# Altium footprint library EE490.PcbLib: 59 footprints (part 3 of 4)
Each footprint in its own frame and in the unit in brackets; x right, y up, seen from the top. Pads: shape width x height; smd on the part's side, far side on the other; paste and mask are expansions set on the pad; w line width, h text height; cw(c..) or ccw(c..) is an arc to the next point about the centre after c.
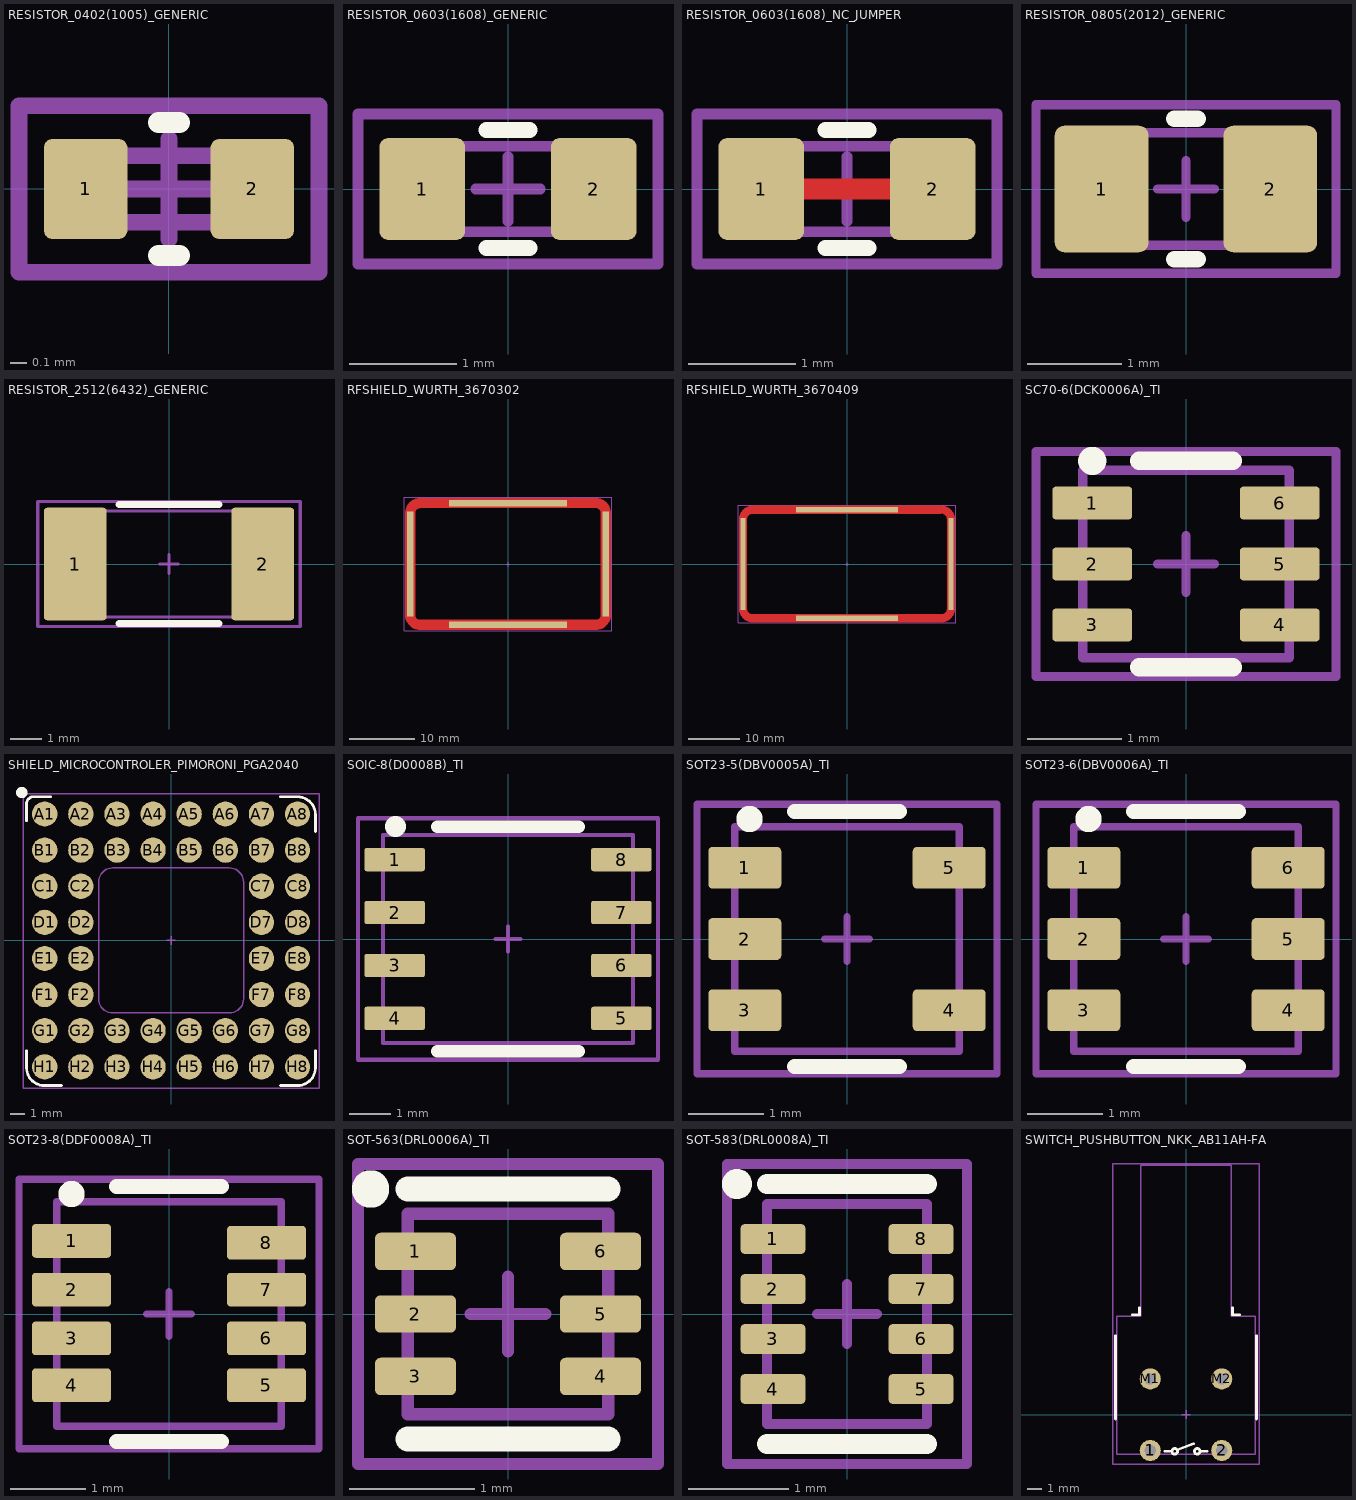
[diagram p2: the footprints below, top view; thin cyan lines are the x and y axes]

## RESISTOR_0402(1005)_GENERIC [mm]
pads (2):
  rrect20% 0.5x0.6 smd: 1(-0.5,0) 2(0.5,0)
Top Overlay:
  lines w0.125: -0.064,-0.4 0.064,-0.4 ; -0.064,0.4 0.064,0.4
Top Component Center:
  lines w0.1: -0.3,0 0.3,0 ; 0,-0.3 0,0.3
Top Component Outline:
  lines w0.1: -0.5,-0.2 0.5,-0.2 0.5,0.2 -0.5,0.2 -0.5,-0.2
Top Designator:
  text ".Designator" at -2.499,-0.167 h0.5
Top Courtyard:
  lines w0.1: -0.9,-0.5 0.9,-0.5 0.9,0.5 -0.9,0.5 -0.9,-0.5
3D body "RESC1005X04L.step": height 0.4, standoff 0, extent -0.5,-0.25 0.5,0.25

## RESISTOR_0603(1608)_GENERIC [mm]
height 0.6
pads (2):
  rrect20% 0.8x0.95 smd: 1(-0.8,0) 2(0.8,0)
Top Overlay:
  lines w0.15: -0.2,-0.55 0.2,-0.55 ; -0.2,0.55 0.2,0.55
Top Component Center:
  lines w0.1: -0.3,0 0.3,0 ; 0,-0.3 0,0.3
Top Component Outline:
  lines w0.1: -0.8,-0.4 0.8,-0.4 0.8,0.4 -0.8,0.4 -0.8,-0.4
Top Designator:
  text ".Designator" at -3.999,-0.267 h0.8
Top Courtyard:
  lines w0.1: -1.4,-0.7 1.4,-0.7 1.4,0.7 -1.4,0.7 -1.4,-0.7
3D body "RESC1608X06L.step": height 0.55, standoff 0, extent -0.8,-0.4 0.8,0.4

## RESISTOR_0603(1608)_NC_JUMPER [mm]
height 0.6
pads (2):
  rrect20% 0.8x0.95 smd: 1(-0.8,0) 2(0.8,0)
Top Layer:
  lines w0.2: -0.8,0 0.8,0
Top Overlay:
  lines w0.15: -0.2,-0.55 0.2,-0.55 ; -0.2,0.55 0.2,0.55
Top Component Center:
  lines w0.1: -0.3,0 0.3,0 ; 0,-0.3 0,0.3
Top Component Outline:
  lines w0.1: -0.8,-0.4 0.8,-0.4 0.8,0.4 -0.8,0.4 -0.8,-0.4
Top Designator:
  text ".Designator" at -3.999,-0.267 h0.8
Top Courtyard:
  lines w0.1: -1.4,-0.7 1.4,-0.7 1.4,0.7 -1.4,0.7 -1.4,-0.7
3D body "RESC1608X06L.step": height 0.55, standoff 0, extent -0.8,-0.4 0.8,0.4

## RESISTOR_0805(2012)_GENERIC [mm]
height 0.6
pads (2):
  rrect20% 1x1.35 smd: 1(-0.9,0) 2(0.9,0)
Top Overlay:
  lines w0.175: -0.125,-0.75 0.125,-0.75 ; -0.125,0.75 0.125,0.75
Top Component Center:
  lines w0.1: -0.3,0 0.3,0 ; 0,-0.3 0,0.3
Top Component Outline:
  lines w0.1: -1,-0.6 1,-0.6 1,0.6 -1,0.6 -1,-0.6
Top Designator:
  text ".Designator" at -4.998,-0.333 h1
Top Courtyard:
  lines w0.1: -1.6,-0.9 1.6,-0.9 1.6,0.9 -1.6,0.9 -1.6,-0.9
3D body "RESC2012X06L.step": height 0.65, standoff 0, extent -1,-0.625 1,0.625

## RESISTOR_2512(6432)_GENERIC [mm]
height 0.6
pads (2):
  rrect10% 2x3.6 smd: 1(-3,0) 2(3,0)
Top Overlay:
  lines w0.225: -1.6,-1.9 1.6,-1.9 ; -1.6,1.9 1.6,1.9
Top Component Center:
  lines w0.1: -0.3,0 0.3,0 ; 0,-0.3 0,0.3
Top Component Outline:
  lines w0.1: -3.3,-1.7 3.3,-1.7 3.3,1.7 -3.3,1.7 -3.3,-1.7
Top Designator:
  text ".Designator" at -7.498,-0.5 h1.5
Top Courtyard:
  lines w0.1: -4.2,-2 4.2,-2 4.2,2 -4.2,2 -4.2,-2
3D body "RESC6432X09N.step": height 0.9, standoff 0, extent -3.3,-1.7 3.3,1.7

## RFSHIELD_WURTH_3670302 [mm]
pads (4):
  rect 1x16 smd paste-2539.97 mask-2222: 1(-14.95,0) 1(14.95,0)
  rect 18x1 smd paste-2539.97 mask-2222: 1(0,-9.3) 1(0,9.3)
Top Layer:
  region: -15.7,-1 -15.7,7.85 -15.7,7.912 -15.693,8.035 -15.679,8.158 -15.659,8.279 -15.631,8.4 -15.597,8.518 -15.556,8.635 -15.509,8.749 -15.455,8.86 -15.396,8.968 -15.33,9.073 -15.259,9.173 -15.182,9.27 -15.099,9.362 -15.012,9.449 -14.92,9.532 -14.823,9.609 -14.723,9.68 -14.618,9.746 -14.51,9.805 -14.399,9.859 -14.285,9.906 -14.168,9.947 -14.05,9.981 -13.929,10.009 -13.808,10.029 -13.685,10.043 -13.562,10.05 -13.5,10.05 13.5,10.05 13.562,10.05 13.685,10.043 13.808,10.029 13.929,10.009 14.05,9.981 14.168,9.947 14.285,9.906 14.399,9.859 14.51,9.805 14.618,9.746 14.723,9.68 14.823,9.609 14.92,9.532 15.012,9.449 15.099,9.362 15.182,9.27 15.259,9.173 15.33,9.073 15.396,8.968 15.455,8.86 15.509,8.749 15.556,8.635 15.597,8.518 15.631,8.4 15.659,8.279 15.679,8.158 15.693,8.035 15.7,7.912 15.7,7.85 15.7,-1 14.2,-1 14.2,7.85 14.199,7.884 14.192,7.953 14.179,8.02 14.159,8.086 14.133,8.149 14.1,8.21 14.062,8.267 14.019,8.32 13.97,8.369 13.917,8.412 13.86,8.45 13.799,8.483 13.736,8.509 13.67,8.529 13.603,8.542 13.534,8.549 13.5,8.55 -13.5,8.55 -13.534,8.549 -13.603,8.542 -13.67,8.529 -13.736,8.509 -13.799,8.483 -13.86,8.45 -13.917,8.412 -13.97,8.369 -14.019,8.32 -14.062,8.267 -14.1,8.21 -14.133,8.149 -14.159,8.086 -14.179,8.02 -14.192,7.953 -14.199,7.884 -14.2,7.85 -14.2,-1
  region: -15.7,-0.25 -15.7,-7.85 -15.7,-8.067 -15.615,-8.492 -15.45,-8.892 -15.209,-9.252 -14.902,-9.559 -14.542,-9.8 -14.142,-9.965 -13.717,-10.05 -13.5,-10.05 13.5,-10.05 13.717,-10.05 14.142,-9.965 14.542,-9.8 14.902,-9.559 15.209,-9.252 15.45,-8.892 15.615,-8.492 15.7,-8.067 15.7,-7.85 15.7,-0.25 14.2,-0.25 14.2,-7.85 14.197,-7.919 14.17,-8.053 14.117,-8.18 14.041,-8.294 13.944,-8.391 13.83,-8.467 13.703,-8.52 13.569,-8.547 13.5,-8.55 -13.5,-8.55 -13.569,-8.547 -13.703,-8.52 -13.83,-8.467 -13.944,-8.391 -14.041,-8.294 -14.117,-8.18 -14.17,-8.053 -14.197,-7.919 -14.2,-7.85 -14.2,-0.25
Top Paste:
  region: -15.7,-0.25 -15.7,-7.85 -15.7,-8.067 -15.615,-8.492 -15.45,-8.892 -15.209,-9.252 -14.902,-9.559 -14.542,-9.8 -14.142,-9.965 -13.717,-10.05 -13.5,-10.05 13.5,-10.05 13.717,-10.05 14.142,-9.965 14.542,-9.8 14.902,-9.559 15.209,-9.252 15.45,-8.892 15.615,-8.492 15.7,-8.067 15.7,-7.85 15.7,-0.25 14.2,-0.25 14.2,-7.85 14.197,-7.919 14.17,-8.053 14.117,-8.18 14.041,-8.294 13.944,-8.391 13.83,-8.467 13.703,-8.52 13.569,-8.547 13.5,-8.55 -13.5,-8.55 -13.569,-8.547 -13.703,-8.52 -13.83,-8.467 -13.944,-8.391 -14.041,-8.294 -14.117,-8.18 -14.17,-8.053 -14.197,-7.919 -14.2,-7.85 -14.2,-0.25
  region: -15.7,0.25 -15.7,7.85 -15.7,8.067 -15.615,8.492 -15.45,8.892 -15.209,9.252 -14.902,9.559 -14.542,9.8 -14.142,9.965 -13.717,10.05 -13.5,10.05 13.5,10.05 13.717,10.05 14.142,9.965 14.542,9.8 14.902,9.559 15.209,9.252 15.45,8.892 15.615,8.492 15.7,8.067 15.7,7.85 15.7,0.25 14.2,0.25 14.2,7.85 14.197,7.919 14.17,8.053 14.117,8.18 14.041,8.294 13.944,8.391 13.83,8.467 13.703,8.52 13.569,8.547 13.5,8.55 -13.5,8.55 -13.569,8.547 -13.703,8.52 -13.83,8.467 -13.944,8.391 -14.041,8.294 -14.117,8.18 -14.17,8.053 -14.197,7.919 -14.2,7.85 -14.2,0.25
Top 3D Body:
  lines w0.1: -15.1,-7.95 ccw(c-13.6,-7.95) -13.6,-9.45 13.6,-9.45 ccw(c13.6,-7.95) 15.1,-7.95 15.1,7.95 ccw(c13.6,7.95) 13.6,9.45 -13.6,9.45 ccw(c-13.6,7.95) -15.1,7.95 -15.1,-7.95
Top Component Center:
  lines w0.1: -0.295,-0.008 0.305,-0.008 ; 0.005,-0.308 0.005,0.292
Top Component Outline:
  lines w0.1: -15.1,-7.95 ccw(c-13.6,-7.95) -13.6,-9.45 13.6,-9.45 ccw(c13.6,-7.95) 15.1,-7.95 15.1,7.95 ccw(c13.6,7.95) 13.6,9.45 -13.6,9.45 ccw(c-13.6,7.95) -15.1,7.95 -15.1,-7.95
Top Designator:
  text ".Designator" at -10.317,-0.431 h2
Top Courtyard:
  lines w0.1: -15.9,-10.2 15.9,-10.2 15.9,10.2 -15.9,10.2 -15.9,-10.2
3D body "STP_3670302 Color.stp": height 3, standoff 0, extent -15.1,-9.45 15.1,9.45

## RFSHIELD_WURTH_3670409 [mm]
pads (4):
  rect 1x18 smd paste-2539.97 mask-2222: 1(-20.3,0) 1(20.3,0)
  rect 20x1 smd paste-2539.97 mask-2222: 1(0,-10.6) 1(0,10.6)
Top Layer:
  region: -21.05,-1 -21.05,8.75 -21.05,8.814 -21.044,8.941 -21.031,9.068 -21.012,9.195 -20.988,9.32 -20.957,9.444 -20.92,9.566 -20.877,9.686 -20.828,9.804 -20.773,9.919 -20.713,10.032 -20.647,10.141 -20.576,10.248 -20.5,10.35 -20.419,10.449 -20.334,10.543 -20.243,10.634 -20.149,10.719 -20.05,10.8 -19.948,10.876 -19.841,10.947 -19.732,11.013 -19.619,11.073 -19.504,11.128 -19.386,11.177 -19.266,11.22 -19.144,11.257 -19.02,11.288 -18.895,11.312 -18.768,11.331 -18.641,11.344 -18.514,11.35 -18.45,11.35 18.45,11.35 18.514,11.35 18.641,11.344 18.768,11.331 18.895,11.312 19.02,11.288 19.144,11.257 19.266,11.22 19.386,11.177 19.504,11.128 19.619,11.073 19.732,11.013 19.841,10.947 19.948,10.876 20.05,10.8 20.149,10.719 20.243,10.634 20.334,10.543 20.419,10.449 20.5,10.35 20.576,10.248 20.647,10.141 20.713,10.032 20.773,9.919 20.828,9.804 20.877,9.686 20.92,9.566 20.957,9.444 20.988,9.32 21.012,9.195 21.031,9.068 21.044,8.941 21.05,8.814 21.05,8.75 21.05,-1 19.55,-1 19.55,8.75 19.549,8.793 19.542,8.879 19.529,8.965 19.509,9.049 19.482,9.131 19.449,9.211 19.41,9.287 19.365,9.361 19.314,9.431 19.258,9.497 19.197,9.558 19.131,9.614 19.061,9.665 18.987,9.71 18.911,9.749 18.831,9.782 18.749,9.809 18.665,9.829 18.579,9.842 18.493,9.849 18.45,9.85 -18.45,9.85 -18.493,9.849 -18.579,9.842 -18.665,9.829 -18.749,9.809 -18.831,9.782 -18.911,9.749 -18.987,9.71 -19.061,9.665 -19.131,9.614 -19.197,9.558 -19.258,9.497 -19.314,9.431 -19.365,9.361 -19.41,9.287 -19.449,9.211 -19.482,9.131 -19.509,9.049 -19.529,8.965 -19.542,8.879 -19.549,8.793 -19.55,8.75 -19.55,-1
  region: -21.05,-0.25 -21.05,-8.75 -21.05,-8.814 -21.044,-8.941 -21.031,-9.068 -21.012,-9.195 -20.988,-9.32 -20.957,-9.444 -20.92,-9.566 -20.877,-9.686 -20.828,-9.804 -20.773,-9.919 -20.713,-10.032 -20.647,-10.141 -20.576,-10.248 -20.5,-10.35 -20.419,-10.449 -20.334,-10.543 -20.243,-10.634 -20.149,-10.719 -20.05,-10.8 -19.948,-10.876 -19.841,-10.947 -19.732,-11.013 -19.619,-11.073 -19.504,-11.128 -19.386,-11.177 -19.266,-11.22 -19.144,-11.257 -19.02,-11.288 -18.895,-11.312 -18.768,-11.331 -18.641,-11.344 -18.514,-11.35 -18.45,-11.35 18.45,-11.35 18.514,-11.35 18.641,-11.344 18.768,-11.331 18.895,-11.312 19.02,-11.288 19.144,-11.257 19.266,-11.22 19.386,-11.177 19.504,-11.128 19.619,-11.073 19.732,-11.013 19.841,-10.947 19.948,-10.876 20.05,-10.8 20.149,-10.719 20.243,-10.634 20.334,-10.543 20.419,-10.449 20.5,-10.35 20.576,-10.248 20.647,-10.141 20.713,-10.032 20.773,-9.919 20.828,-9.804 20.877,-9.686 20.92,-9.566 20.957,-9.444 20.988,-9.32 21.012,-9.195 21.031,-9.068 21.044,-8.941 21.05,-8.814 21.05,-8.75 21.05,-0.25 19.55,-0.25 19.55,-8.75 19.549,-8.793 19.542,-8.879 19.529,-8.965 19.509,-9.049 19.482,-9.131 19.449,-9.211 19.41,-9.287 19.365,-9.361 19.314,-9.431 19.258,-9.497 19.197,-9.558 19.131,-9.614 19.061,-9.665 18.987,-9.71 18.911,-9.749 18.831,-9.782 18.749,-9.809 18.665,-9.829 18.579,-9.842 18.493,-9.849 18.45,-9.85 -18.45,-9.85 -18.493,-9.849 -18.579,-9.842 -18.665,-9.829 -18.749,-9.809 -18.831,-9.782 -18.911,-9.749 -18.987,-9.71 -19.061,-9.665 -19.131,-9.614 -19.197,-9.558 -19.258,-9.497 -19.314,-9.431 -19.365,-9.361 -19.41,-9.287 -19.449,-9.211 -19.482,-9.131 -19.509,-9.049 -19.529,-8.965 -19.542,-8.879 -19.549,-8.793 -19.55,-8.75 -19.55,-0.25
Top Paste:
  drawing of 2 lines, arcs and shapes, not listed
Top 3D Body:
  lines w0.1: -20.45,-8.75 ccw(c-18.45,-8.75) -18.45,-10.75 18.45,-10.75 ccw(c18.45,-8.75) 20.45,-8.75 20.45,8.75 ccw(c18.45,8.75) 18.45,10.75 -18.45,10.75 ccw(c-18.45,8.75) -20.45,8.75 -20.45,-8.75
Top Component Center:
  lines w0.1: -0.295,-0.008 0.305,-0.008 ; 0.005,-0.308 0.005,0.292
Top Component Outline:
  lines w0.1: -20.45,-8.75 ccw(c-18.45,-8.75) -18.45,-10.75 18.45,-10.75 ccw(c18.45,-8.75) 20.45,-8.75 20.45,8.75 ccw(c18.45,8.75) 18.45,10.75 -18.45,10.75 ccw(c-18.45,8.75) -20.45,8.75 -20.45,-8.75
Top Designator:
  text ".Designator" at -10.317,-0.431 h2
Top Courtyard:
  lines w0.1: -21.2,-11.5 -21.2,11.5 21.2,11.5 21.2,-11.5 -21.2,-11.5
3D body "STP_3670409 Color.stp": height 2.5, standoff 0, extent -20.45,-10.75 20.45,10.75

## SC70-6(DCK0006A)_TI [mm]
pads (6):
  rrect20% 0.85x0.35 smd: 1(-1,0.65) 2(-1,0) 3(-1,-0.65) 4(1,-0.65) 5(1,0) 6(1,0.65)
Top Overlay:
  circle w0.2: c-1,1.1 r0.05
  lines w0.2: -0.5,-1.1 0.5,-1.1 ; -0.5,1.1 0.5,1.1
Top Component Center:
  lines w0.1: -0.3,0 0.3,0 ; 0,-0.3 0,0.3
Top Component Outline:
  lines w0.1: -1.1,-1 1.1,-1 1.1,1 -1.1,1 -1.1,-1
Top Designator:
  text ".Designator" at -5.09,-0.332 h1
Top Courtyard:
  lines w0.1: -1.6,-1.2 1.6,-1.2 1.6,1.2 -1.6,1.2 -1.6,-1.2
3D body "DCK0006A Color.stp": height 1, standoff 0, extent -1.05,-1 1.05,1

## SHIELD_MICROCONTROLER_PIMORONI_PGA2040 [mil]
pads (48):
  rrect100% 70x70 smd: A1(-350,350) A2(-250,350) A3(-150,350) A4(-50,350) A5(50,350) A6(150,350) A7(250,350) A8(350,350) B1(-350,250) B2(-250,250) B3(-150,250) B4(-50,250) B5(50,250) B6(150,250) B7(250,250) B8(350,250) C1(-350,150) C2(-250,150) C7(250,150) C8(350,150) D1(-350,50) D2(-250,50) D7(250,50) D8(350,50) E1(-350,-50) E2(-250,-50) E7(250,-50) E8(350,-50) F1(-350,-150) F2(-250,-150) F7(250,-150) F8(350,-150) G1(-350,-250) G2(-250,-250) G3(-150,-250) G4(-50,-250) G5(50,-250) G6(150,-250) G7(250,-250) G8(350,-250) H1(-350,-350) H2(-250,-350) H3(-150,-350) H4(-50,-350) H5(50,-350) H6(150,-350) H7(250,-350) H8(350,-350)
Top Overlay:
  circle w15.75: c-413.39,409.45 r7.87
  lines w7.87: -400.39,-305.35 -400.39,-352.09 ccw(c-350.39,-352.09) -350.39,-402.09 -303.66,-402.09 ; -400.39,331.5 -400.39,378.23 cw(c-380.71,378.23) -380.71,397.91 -333.98,397.91 ; 302.87,-402.09 349.61,-402.09 ccw(c349.61,-352.09) 399.61,-352.09 399.61,-305.35 ; 302.87,397.91 349.61,397.91 cw(c349.61,347.91) 399.61,347.91 399.61,301.18
Board Shape:
  lines w3.94: -200.79,-161.42 ccw(c-161.42,-161.42) -161.42,-200.79 161.42,-200.79 ccw(c161.42,-161.42) 200.79,-161.42 200.79,161.42 ccw(c161.42,161.42) 161.42,200.79 -161.42,200.79 ccw(c-161.42,161.42) -200.79,161.42 -200.79,-161.42
Top Component Center:
  lines w3.94: -11.81,0 11.81,0 ; 0,-11.81 0,11.81
Top Designator:
  text ".Designator" at -406.37,-16.65 h78.74
Top Courtyard:
  lines w3.94: -409.45,-409.45 409.45,-409.45 409.45,405.51 -409.45,405.51 -409.45,-409.45

## SOIC-8(D0008B)_TI [mm]
height 1.75
pads (8):
  rrect20% 1.455x0.558 smd: 1(-2.721,1.905) 2(-2.721,0.635) 3(-2.721,-0.635) 4(-2.721,-1.905) 5(2.721,-1.905) 6(2.721,-0.635) 7(2.721,0.635) 8(2.721,1.905)
Top Overlay:
  circle w0.4: c-2.7,2.7 r0.05
  lines w0.3: -1.7,-2.7 1.7,-2.7 ; -1.7,2.7 1.7,2.7
Top Component Center:
  lines w0.1: -0.3,0 0.3,0 ; 0,-0.3 0,0.3
Top Component Outline:
  lines w0.1: -3,-2.5 3,-2.5 3,2.5 -3,2.5 -3,-2.5
Top Designator:
  text ".Designator" at -7.498,-0.5 h1.5
Top Courtyard:
  lines w0.1: -3.6,-2.9 3.6,-2.9 3.6,2.9 -3.6,2.9 -3.6,-2.9
3D body "D0008A-Color.stp": height 1.63, standoff 0, extent -3.011,-2.451 3.011,2.451

## SOT23-5(DBV0005A)_TI [mm]
pads (5):
  rrect20% 0.972x0.558 smd: 1(-1.362,0.95) 2(-1.362,0) 3(-1.362,-0.95) 4(1.362,-0.95) 5(1.362,0.95)
Top Overlay:
  circle w0.25: c-1.3,1.6 r0.05
  lines w0.2: -0.7,-1.7 0.7,-1.7 ; -0.7,1.7 0.7,1.7
Top Component Center:
  lines w0.1: -0.3,0 0.3,0 ; 0,-0.3 0,0.3
Top Component Outline:
  lines w0.1: -1.5,-1.5 1.5,-1.5 1.5,1.5 -1.5,1.5 -1.5,-1.5
Top Designator:
  text ".Designator" at -5.09,-0.332 h1
Top Courtyard:
  lines w0.1: -2,-1.8 2,-1.8 2,1.8 -2,1.8 -2,-1.8
3D body "SOT235_DBV_TEX.stp": height 1.45, standoff 0, extent -1.499,-1.524 1.499,1.524

## SOT23-6(DBV0006A)_TI [mm]
pads (6):
  rrect20% 0.972x0.558 smd: 1(-1.362,0.95) 2(-1.362,0) 3(-1.362,-0.95) 4(1.362,-0.95) 5(1.362,0) 6(1.362,0.95)
Top Overlay:
  circle w0.25: c-1.3,1.6 r0.05
  lines w0.2: -0.7,-1.7 0.7,-1.7 ; -0.7,1.7 0.7,1.7
Top Component Center:
  lines w0.1: -0.3,0 0.3,0 ; 0,-0.3 0,0.3
Top Component Outline:
  lines w0.1: -1.5,-1.5 1.5,-1.5 1.5,1.5 -1.5,1.5 -1.5,-1.5
Top Designator:
  text ".Designator" at -5.09,-0.332 h1
Top Courtyard:
  lines w0.1: -2,-1.8 2,-1.8 2,1.8 -2,1.8 -2,-1.8
3D body "SOT23_DBV_TEX-Color.stp": height 1.45, standoff 0, extent -1.499,-1.524 1.499,1.524

## SOT23-8(DDF0008A)_TI [mm]
pads (8):
  rrect20% 1.05x0.45 smd mask+0.025: 1(-1.3,0.975) 2(-1.3,0.325) 3(-1.3,-0.325) 4(-1.3,-0.95) 5(1.3,-0.95) 6(1.3,-0.325) 7(1.3,0.325) 8(1.3,0.95)
Top Overlay:
  circle w0.25: c-1.3,1.6 r0.05
  lines w0.2: -0.7,-1.7 0.7,-1.7 ; -0.7,1.7 0.7,1.7
Top Component Center:
  lines w0.1: -0.3,0 0.3,0 ; 0,-0.3 0,0.3
Top Component Outline:
  lines w0.1: -1.5,-1.5 -1.5,1.5 1.5,1.5 1.5,-1.5 -1.5,-1.5
Top Designator:
  text ".Designator" at -5.09,-0.332 h1
Top Courtyard:
  lines w0.1: -2,-1.8 2,-1.8 2,1.8 -2,1.8 -2,-1.8
3D body "SOT23-8_DDF_TEX Color.stp": height 1.09, standoff 0, extent -1.473,-1.473 1.473,1.473

## SOT-563(DRL0006A)_TI [mm]
height 0.6
pads (6):
  rrect30% 0.65x0.3 smd mask+0.025: 1(-0.74,0.5) 2(-0.74,0) 3(-0.74,-0.5) 4(0.74,-0.5) 5(0.74,0) 6(0.74,0.5)
Top Overlay:
  circle w0.2: c-1.1,1 r0.05
  lines w0.2: -0.8,-1 0.8,-1 ; -0.8,1 0.8,1
Top Component Center:
  lines w0.1: -0.3,0 0.3,0 ; 0,-0.3 0,0.3
Top Component Outline:
  lines w0.1: -0.8,-0.8 0.8,-0.8 0.8,0.8 -0.8,0.8 -0.8,-0.8
Top Designator:
  text ".Designator" at -5.09,-0.332 h1
Top Courtyard:
  lines w0.1: -1.2,-1.2 1.2,-1.2 1.2,1.2 -1.2,1.2 -1.2,-1.2
3D body "DRL0006A-Color.stp": height 0.6, standoff 0, extent -0.8,-0.8 0.8,0.8

## SOT-583(DRL0008A)_TI [mm]
height 0.6
pads (8):
  rrect30% 0.65x0.3 smd mask+0.025: 1(-0.74,0.75) 2(-0.74,0.25) 3(-0.74,-0.25) 4(-0.74,-0.75) 5(0.74,-0.75) 6(0.74,-0.25) 7(0.74,0.25) 8(0.74,0.75)
Top Overlay:
  circle w0.2: c-1.1,1.3 r0.05
  lines w0.2: -0.8,-1.3 0.8,-1.3 ; -0.8,1.3 0.8,1.3
Top Component Center:
  lines w0.1: -0.3,0 0.3,0 ; 0,-0.3 0,0.3
Top Component Outline:
  lines w0.1: -0.8,-1.1 0.8,-1.1 0.8,1.1 -0.8,1.1 -0.8,-1.1
Top Designator:
  text ".Designator" at -5.09,-0.332 h1
Top Courtyard:
  lines w0.1: -1.2,-1.5 1.2,-1.5 1.2,1.5 -1.2,1.5 -1.2,-1.5
3D body "DRL0008A.stp": height 0.6, standoff 0, extent -0.8,-1.05 0.8,1.05

## SWITCH_PUSHBUTTON_NKK_AB11AH-FA [mm]
pads (4):
  round 1.5 hole 0.8: 1(-2.54,-2.54) 2(2.54,-2.54) M1(-2.54,2.54) M2(2.54,2.54)
Top Overlay:
  circle w0.2: c0.8,-2.6 r0.2
  circle w0.2: c-0.8,-2.6 r0.2
  lines w0.2: -5,-0.3 -5,5.6 ; -3.8,7.1 -3.3,7.1 -3.3,7.6 ; -1.5,-2.6 -1,-2.6 ; -0.6,-2.5 0.526,-2.067 ; 1,-2.6 1.5,-2.6 ; 3.3,7.6 3.3,7.1 3.8,7.1 ; 5,-0.3 5,5.6
Top Component Center:
  lines w0.1: -0.3,0 0.3,0 ; 0,-0.3 0,0.3
Top Component Outline:
  lines w0.1: -4.9,-2.8 -4.9,7 -3.2,7 -3.2,17.7 3.2,17.7 3.2,7 4.9,7 4.9,-2.8 -4.9,-2.8
Top Designator:
  text ".Designator" at -7.589,-0.499 h1.5
Top Courtyard:
  lines w0.1: -5.2,-3.5 5.2,-3.5 5.2,17.8 -5.2,17.8 -5.2,-3.5
3D body "AB11AH-FA Color.stp": height 5.7, standoff -3.57, extent -4.902,-2.826 4.902,17.645